# Altium schematic symbol library DRP_Basic_2014.SchLib: 39 symbols
Pins are listed as number, name and electrical type; pins without a type are passive.

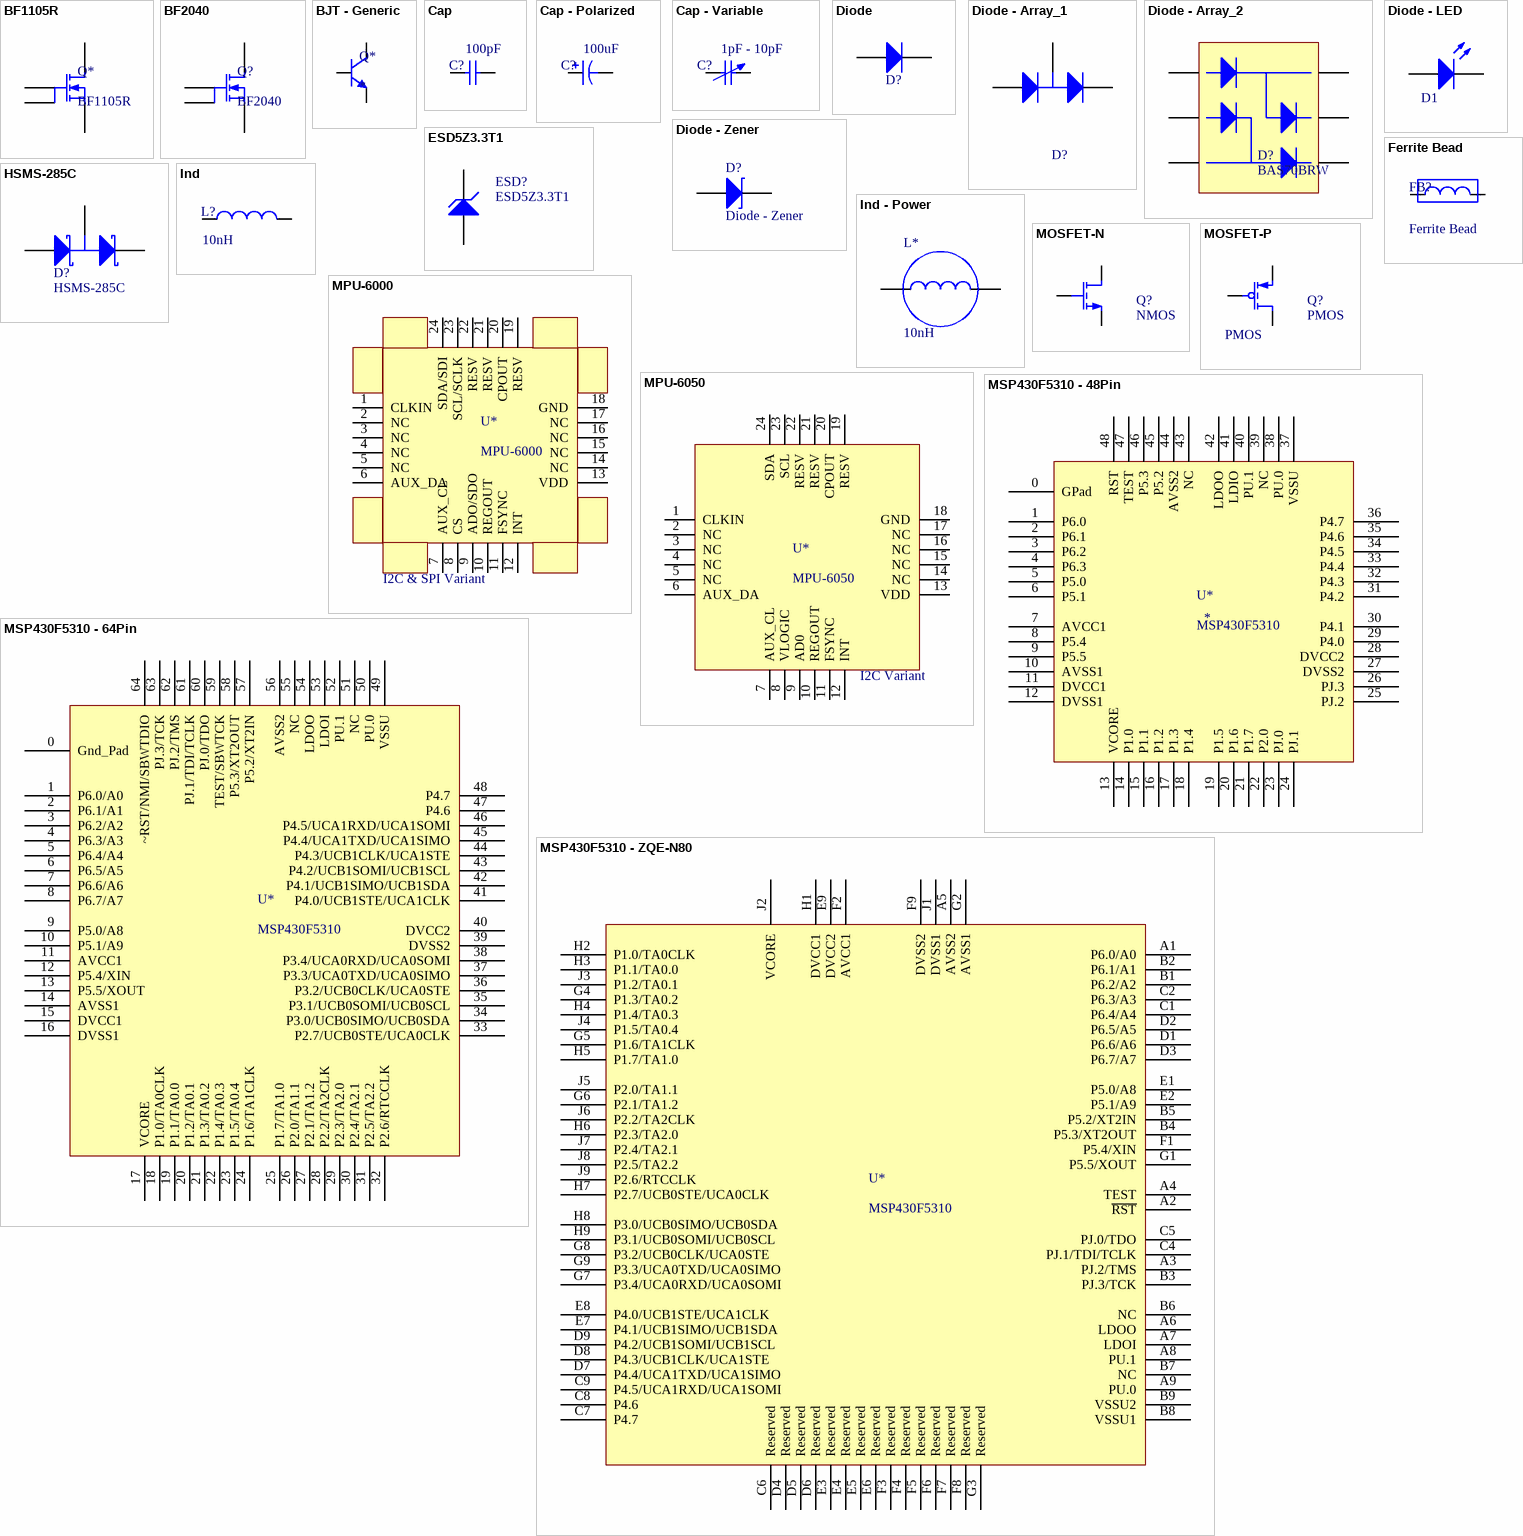
[diagram p0: symbols BF1105R to MSP430F5310 - ZQE-N80]

## BF1105R
designator Q*
SOT-143R, N-Channel Dual-Gate Mos-Fets MOSFET; Manufacturer Part Number: BF1105R,215; Manufacturer: NXP Semiconductors; Digi-Key Part Number: BF1105R,215-ND; Rating: *; Value: *; Note: *
footprint SOT-143R (SOT-143R for BF1105R)
pins: 1 S, 2 D, 3 G, 4 G

## BF2040
designator Q?
N-Channel RF MOSFET 1GHz, 40mA; Manufacturer: NXP Semiconductors; Digi-Key Part Number: BF2040E6814HTSA1CT-ND; Manufacturer Part Number: BF2040; Rating: *; Value: *; Note: *
footprint SOT-143R (SOT-143R for BF1105R)
footprint SOT-143
footprint SOT-343 (SOT343)
pins: 1 S, 2 D, 3 G2, 4 G1

## BJT - Generic
designator Q*
Generic BJT; Digi-Key Part Number: *; Manufacturer: *; Manufacturer Part Number: *; Note: *; Value: *; Rating: *
footprint SOT-323 / SC-70 (SOT-323 / SC-70; 3 Lead Package)
pins: 1 B, 2 E, 3 C

## Cap
designator C?  value 100pF  (hidden comment: Cap)
Ceramic Capacitor (Surface Mount); Manufacturer: Generic Ceramic Chip Cap (TBD); Digi-Key Part Number: *; Manufacturer Part Number: *; Note: *; Rating: *; Distributor Part Number: *; Distributor: *
footprint 0402 (Surface Mount; Body 1 x 0.5 mm (LxW typ))
footprint 0402-W (Surface Mount - Wide; Body 1.0 x 0.5 mm (LxW typ))
footprint 0603 (Surface Mount; Body 1.6 x 0.8 mm (LxW typ))
footprint 0603-W (Surface Mount - Wide; Body 1.6 x 0.8 mm (LxW typ))
footprint 0805 (Surface Mount; Body 2.0 x 1.25 mm (LxW typ))
footprint 0805-W (Surface Mount - Wide; Body 2.0 x 1.25 mm (LxW typ))
footprint 1206 (Surface Mount; Body 3.2 x 1.6 mm (LxW typ))
footprint 1206-W (Surface Mount - Wide; Body 3.2 x 1.6 mm (LxW typ))
footprint 1210 (Surface Mount; Body 3.2 x 2.5 mm (LxW typ))
footprint 1210-W (Chip Capacitor; Body 3.2 x 2.5 mm (LxW typ))
pins: 1, 2

## Cap - Polarized
designator C?  value 100uF  (hidden comment: Cap - Polarized)
Polarized Capacitor; Digi-Key Part Number: *; Manufacturer Part Number: *; Manufacturer: *; Rating: *; Note: *
pins: 1, 2
1 alternate drawing of the same symbol

## Cap - Variable
designator C?  value 1pF - 10pF  (hidden comment: Cap - Variable)
Variable or Adjustable Capacitor; Manufacturer: *; Manufacturer Part Number: *; Digi-Key Part Number: *; Rating: *; Note: *
footprint Var-Cap_0603_Small (Var-Cap 0603 Compatible High-Q, DK#490-2011-1-ND)
footprint Var-Cap - GKY40056 (CAP TRIMMER 8-40PF 50V SMD - GKY40056 - Sprague-Goodman)
footprint Var-Cap_0603_large (Var-Cap 603 Compatible, DK: 490-2009 & SG2026CT)
pins: 1, 2

## Diode
designator D?  (value not drawn)
General Purpose Diode; Manufacturer: *; Manufacturer Part Number: *; Digi-Key Part Number: *; Value: *; Rating: *; Note: *; Distributor Part Number: *; Distributor: *
footprint SOD-523 (SOD-523 Footprint)
footprint SOD-323 (SOD-322 Footprint)
pins: 1 A, 2 C

## Diode - Array_1
designator D?, comment Diode Array  (value not drawn)
Diode Array, Two in Series, Small Package SOT-323; Note: *; Manufacturer: *; Manufacturer Part Number: *; Digi-Key Part Number: *; Value: *; Rating: *
footprint SOT23 - N (SOT23, 3-Leads, Body 2.9x1.3mm, Pitch 0.95mm, Lead Span 2.3mm - Reverse Pinning, IPC Medium Density)
footprint SOT-323 / SC-70 (SOT-323 / SC-70; 3 Lead Package)
pins: 1 A, 2 K, 3 C

## Diode - Array_2
designator D?, comment BAS70BRW
Diode Array - 2 Pair Series Connection; Manufacturer: Diodes Inc; Manufacturer Part Number: BAS70BRW-7-F; Note: *; Digi-Key Part Number: BAS70BRW-7FDICT-ND; Value: *; Rating: *
footprint SOT-363 (SOT-363 ,SC-88 ,6 Lead)
pins: 1 A1, 2 A2, 3 AC2, 4 C2, 5 C1, 6 AC1

## Diode - LED
designator D1, comment LED  (value not drawn)
Typical RED, GREEN, YELLOW, AMBER GaAs LED; Digi-Key Part Number: *; Manufacturer: *; Manufacturer Part Number: *; Note: *; Value: *; Rating: *
footprint Diode - 0603 (Diode: Body 1.6 x 0.8 mm (LxW typ))
pins: 1 A, 2 K

## Diode - Zener
designator D?
Manufacturer Part Number: *; Manufacturer: *; Digi-Key Part Number: *; Note: *; Value: *; Rating: *
footprint SOD-523 (SOD-523 Footprint)
pins: 1 A, 2 K

## ESD5Z3.3T1
designator ESD?
5V Overvoltage Protection Zener; Manufacturer Part Number: ESD5Z3.3T1G; Manufacturer: ON Semiconductor; Digi-Key Part Number: ESD5Z3.3T1GOSCT-ND; Value: *; Rating: *; Note: *
footprint SOD-523 (SOD-523 Footprint)
pins: 1 A, 2 C

## Ferrite Bead
designator FB?
Ferrite bead, RF choke; Manufacturer: example: Taiyo Yuden; Manufacturer Part Number: example: BK1608HS330-T; Digi-Key Part Number: example: 587-1871-1-ND; Rating: *; Note: *; Value: *
footprint 0402 (Surface Mount; Body 1 x 0.5 mm (LxW typ))
footprint 0402-W (Surface Mount - Wide; Body 1.0 x 0.5 mm (LxW typ))
footprint 0603 (Surface Mount; Body 1.6 x 0.8 mm (LxW typ))
footprint 0603-W (Surface Mount - Wide; Body 1.6 x 0.8 mm (LxW typ))
footprint 0805 (Surface Mount; Body 2.0 x 1.25 mm (LxW typ))
footprint 0805-W (Surface Mount - Wide; Body 2.0 x 1.25 mm (LxW typ))
footprint 1206 (Surface Mount; Body 3.2 x 1.6 mm (LxW typ))
footprint 1206-W (Surface Mount - Wide; Body 3.2 x 1.6 mm (LxW typ))
pins: 1, 2

## HSMS-285C
designator D?
Agilent Schottky Diode, Two in Series, Small Package SOT-323; Manufacturer: Avago Technologies US Inc.; Note: *; Digi-Key Part Number: *not stocked; Manufacturer Part Number: HSMS-285C; Rating: *; Value: *
footprint SOT-323, HSMS-285C (SOT-323/SC-70; 3 Leads; HSMS-285C)
pins: 1 A, 2 K, 3 C

## Ind
designator L?  value 10nH  (hidden comment: Ind)
Inductor (Surface Mount); Digi-Key Part Number: *; Manufacturer: *; Manufacturer Part Number: *; Rating: *; Note: *
footprint 0402 (Surface Mount; Body 1 x 0.5 mm (LxW typ))
footprint 0402-W (Surface Mount - Wide; Body 1.0 x 0.5 mm (LxW typ))
footprint 0603 (Surface Mount; Body 1.6 x 0.8 mm (LxW typ))
footprint 0603-W (Surface Mount - Wide; Body 1.6 x 0.8 mm (LxW typ))
footprint 0805 (Surface Mount; Body 2.0 x 1.25 mm (LxW typ))
footprint 0805-W (Surface Mount - Wide; Body 2.0 x 1.25 mm (LxW typ))
footprint 1206 (Surface Mount; Body 3.2 x 1.6 mm (LxW typ))
footprint 1206-W (Surface Mount - Wide; Body 3.2 x 1.6 mm (LxW typ))
footprint 1210 (Surface Mount; Body 3.2 x 2.5 mm (LxW typ))
footprint 1210-W (Chip Capacitor; Body 3.2 x 2.5 mm (LxW typ))
pins: 1, 2

## Ind - Power
designator L*, comment value 10nH  (hidden comment: Ind)
Power Inductor for DC-DC convters (RF switching freq); Digi-Key Part Number: *; Distributor Part Number: *; Distributor: *; Manufacture Part Number: *; Manufacture: *; Note: *; Rating: *
footprint Inductor (1120) (Inductor - Boruns - Power - DC/DC - High Current Chokes)
footprint Inductor (1400) (Inductor - Murata - Bobbin Type Inductors)
footprint Inductor (2100LL) (Inductor - Boruns - Low Core Loss, High Current Toroid Inductors)
footprint Inductor (2200LL) (Inductor - Boruns - Low Core Loss, High Current Toroid Inductors)
footprint Inductor - LPS3015 (Coil Craft - LPS3015 (3 x 3 x 1.4mm))
footprint Inductor - [6mm x 6mm] (Power Inductor (6mm x 6mm) - SLF6028 Series)
pins: 1, 2

## MOSFET-N
designator Q?, comment NMOS
N-Channel MOSFET; Digi-Key Part Number: *; Manufacturer Part Number: *; Manufacturer: *; Note: *; Rating: *; Value: NMOS
footprint SOT23 - N (SOT23, 3-Leads, Body 2.9x1.3mm, Pitch 0.95mm, Lead Span 2.3mm - Reverse Pinning, IPC Medium Density)
footprint SOT-323 / SC-70 (SOT-323 / SC-70; 3 Lead Package)
footprint TO-252 / DPAK (Three pin device with one pin a thermal PAD, typically for MOSFETS)
footprint TO-252 / Mod - TO-220 (Three pin device with one pin a thermal PAD, typically for MOSFETS)
footprint SOT-523-3 (SOT-523-3 1.7x0.98mm body)
pins: 1 G, 2 S, 3 D

## MOSFET-P
designator Q?, comment PMOS
P-Channel MOSFET; Digi-Key Part Number: *; Manufacturer Part Number: *; Manufacturer: *; Note: *; Rating: *; Value: PMOS
footprint SOT23 - N (SOT23, 3-Leads, Body 2.9x1.3mm, Pitch 0.95mm, Lead Span 2.3mm - Reverse Pinning, IPC Medium Density)
footprint SOT-323 / SC-70 (SOT-323 / SC-70; 3 Lead Package)
footprint SC-75 - SOT-416 (SC-75, 3-Leads, Body)
pins: 1 G, 2 S, 3 D

## MPU-6000
designator U*  value I2C & SPI Variant
GYRO/ACCELEROMETER 6AXIS 24QFN; Manufacture: InvenSense; Distributor: *; Distributor Part Number: *; Manufacture Part Number: MPU-6000; Note: *; Rating: *
pins: 1 CLKIN, 2 NC, 3 NC, 4 NC, 5 NC, 6 AUX_DA, 7 AUX_CL, 8 CS, 9 ADO/SDO, 10 REGOUT, 11 FSYNC, 12 INT, 13 VDD, 14 NC, 15 NC, 16 NC, 17 NC, 18 GND, 19 RESV, 20 CPOUT, 21 RESV, 22 RESV, 23 SCL/SCLK, 24 SDA/SDI

## MPU-6050
designator U*  value I2C Variant
GYRO/ACCELEROMETER 6AXIS 24QFN; Manufacture: InvenSense; Digi-Key Part Number: 1428-1007-1-ND; Distributor: *; Distributor Part Number: *; Manufacture Part Number: MPU-6050; Note: *; Rating: *
footprint 24-QFN (24-QFN, for MSP430Fx21x1)
pins: 1 CLKIN, 2 NC, 3 NC, 4 NC, 5 NC, 6 AUX_DA, 7 AUX_CL, 8 VLOGIC, 9 AD0, 10 REGOUT, 11 FSYNC, 12 INT, 13 VDD, 14 NC, 15 NC, 16 NC, 17 NC, 18 GND, 19 RESV, 20 CPOUT, 21 RESV, 22 RESV, 23 SCL, 24 SDA

## MSP430F5310 - 48Pin
designator U*, comment MSP430F5310
MSP430 - 48LQFP or 48QFN; Manufacturer: Texas Instruments; Manufacturer Part Number: MSP430F5310 (IPTR or IRGZ); Digi-Key Part Number: 296-28193-2-ND or 296-28133-1-ND; Rating: *; Value: *; Note: *
footprint PT48_L (Thin QFP, 48-Leads, Body 7x7mm, Pitch 0.5mm, IPC High Density)
footprint 48-QFN
pins: 0 GPad, 1 P6.0, 2 P6.1, 3 P6.2, 4 P6.3, 5 P5.0, 6 P5.1, 7 AVCC1, 8 P5.4, 9 P5.5, 10 AVSS1, 11 DVCC1, 12 DVSS1, 13 VCORE, 14 P1.0, 15 P1.1, 16 P1.2, 17 P1.3, 18 P1.4, 19 P1.5, 20 P1.6, 21 P1.7, 22 P2.0, 23 PJ.0, 24 PJ.1, 25 PJ.2, 26 PJ.3, 27 DVSS2, 28 DVCC2, 29 P4.0, 30 P4.1, 31 P4.2, 32 P4.3, 33 P4.4, 34 P4.5, 35 P4.6, 36 P4.7, 37 VSSU, 38 PU.0, 39 NC, 40 PU.1, 41 LDIO, 42 LDOO, 43 NC, 44 AVSS2, 45 P5.2, 46 P5.3, 47 TEST, 48 RST

## MSP430F5310 - 64Pin
designator U*, comment MSP430F5310
16-bit Low Power Microcontroller  32KB FLASH 64VQFN; Manufacturer Part Number: MSP430F5310IRGCT; Manufacturer: Texas Instruments; Digi-Key Part Number: 296-31690-1-ND; Value: *; Rating: *; Note: *
footprint MSP430F5310 LCC64
pins: 0 Gnd_Pad, 1 P6.0/A0, 2 P6.1/A1, 3 P6.2/A2, 4 P6.3/A3, 5 P6.4/A4, 6 P6.5/A5, 7 P6.6/A6, 8 P6.7/A7, 9 P5.0/A8, 10 P5.1/A9, 11 AVCC1, 12 P5.4/XIN, 13 P5.5/XOUT, 14 AVSS1, 15 DVCC1, 16 DVSS1, 17 VCORE, 18 P1.0/TA0CLK, 19 P1.1/TA0.0, 20 P1.2/TA0.1, 21 P1.3/TA0.2, 22 P1.4/TA0.3, 23 P1.5/TA0.4, 24 P1.6/TA1CLK, 25 P1.7/TA1.0, 26 P2.0/TA1.1, 27 P2.1/TA1.2, 28 P2.2/TA2CLK, 29 P2.3/TA2.0, 30 P2.4/TA2.1, 31 P2.5/TA2.2, 32 P2.6/RTCCLK, 33 P2.7/UCB0STE/UCA0CLK, 34 P3.0/UCB0SIMO/UCB0SDA, 35 P3.1/UCB0SOMI/UCB0SCL, 36 P3.2/UCB0CLK/UCA0STE, 37 P3.3/UCA0TXD/UCA0SIMO, 38 P3.4/UCA0RXD/UCA0SOMI, 39 DVSS2, 40 DVCC2, 41 P4.0/UCB1STE/UCA1CLK, 42 P4.1/UCB1SIMO/UCB1SDA, 43 P4.2/UCB1SOMI/UCB1SCL, 44 P4.3/UCB1CLK/UCA1STE, 45 P4.4/UCA1TXD/UCA1SIMO, 46 P4.5/UCA1RXD/UCA1SOMI, 47 P4.6, 48 P4.7, 49 VSSU, 50 PU.0, 51 NC, 52 PU.1, 53 LDOI, 54 LDOO, 55 NC, 56 AVSS2, 57 P5.2/XT2IN, 58 P5.3/XT2OUT, 59 TEST/SBWTCK, 60 PJ.0/TDO, 61 PJ.1/TDI/TCLK, 62 PJ.2/TMS, 63 PJ.3/TCK, 64 ~RST/NMI/SBWTDIO

## MSP430F5310 - ZQE-N80
designator U*, comment MSP430F5310
16-bit MCU 32KB FLASH - 80BGA; Manufacturer Part Number: MSP430F5310IZQER; Manufacturer: Texas Instruments; Digi-Key Part Number: 296-28134-1-ND; Value: *; Rating: *; Note: *
footprint ZQE80 (BGA, 80-Leads, Body 5x5mm, Pitch 0.5mm)
pins: A1 P6.0/A0, A2 ~{RST}, A3 PJ.2/TMS, A4 TEST, A5 AVSS2, A6 LDOO, A7 LDOI, A8 PU.1, A9 PU.0, B1 P6.2/A2, B2 P6.1/A1, B3 PJ.3/TCK, B4 P5.3/XT2OUT, B5 P5.2/XT2IN, B6 NC, B7 NC, B8 VSSU1, B9 VSSU2, C1 P6.4/A4, C2 P6.3/A3, C4 PJ.1/TDI/TCLK, C5 PJ.0/TDO, C6 Reserved, C7 P4.7, C8 P4.6, C9 P4.5/UCA1RXD/UCA1SOMI, D1 P6.6/A6, D2 P6.5/A5, D3 P6.7/A7, D4 Reserved, D5 Reserved, D6 Reserved, D7 P4.4/UCA1TXD/UCA1SIMO, D8 P4.3/UCB1CLK/UCA1STE, D9 P4.2/UCB1SOMI/UCB1SCL, E1 P5.0/A8, E2 P5.1/A9, E3 Reserved, E4 Reserved, E5 Reserved, E6 Reserved, E7 P4.1/UCB1SIMO/UCB1SDA, E8 P4.0/UCB1STE/UCA1CLK, E9 DVCC2, F1 P5.4/XIN, F2 AVCC1, F3 Reserved, F4 Reserved, F5 Reserved, F6 Reserved, F7 Reserved, F8 Reserved, F9 DVSS2, G1 P5.5/XOUT, G2 AVSS1, G3 Reserved, G4 P1.3/TA0.2, G5 P1.6/TA1CLK, G6 P2.1/TA1.2, G7 P3.4/UCA0RXD/UCA0SOMI, G8 P3.2/UCB0CLK/UCA0STE, G9 P3.3/UCA0TXD/UCA0SIMO, H1 DVCC1, H2 P1.0/TA0CLK, H3 P1.1/TA0.0, H4 P1.4/TA0.3, H5 P1.7/TA1.0, H6 P2.3/TA2.0, H7 P2.7/UCB0STE/UCA0CLK, H8 P3.0/UCB0SIMO/UCB0SDA, H9 P3.1/UCB0SOMI/UCB0SCL, J1 DVSS1, J2 VCORE, J3 P1.2/TA0.1, J4 P1.5/TA0.4, J5 P2.0/TA1.1, J6 P2.2/TA2CLK, J7 P2.4/TA2.1, J8 P2.5/TA2.2, J9 P2.6/RTCCLK

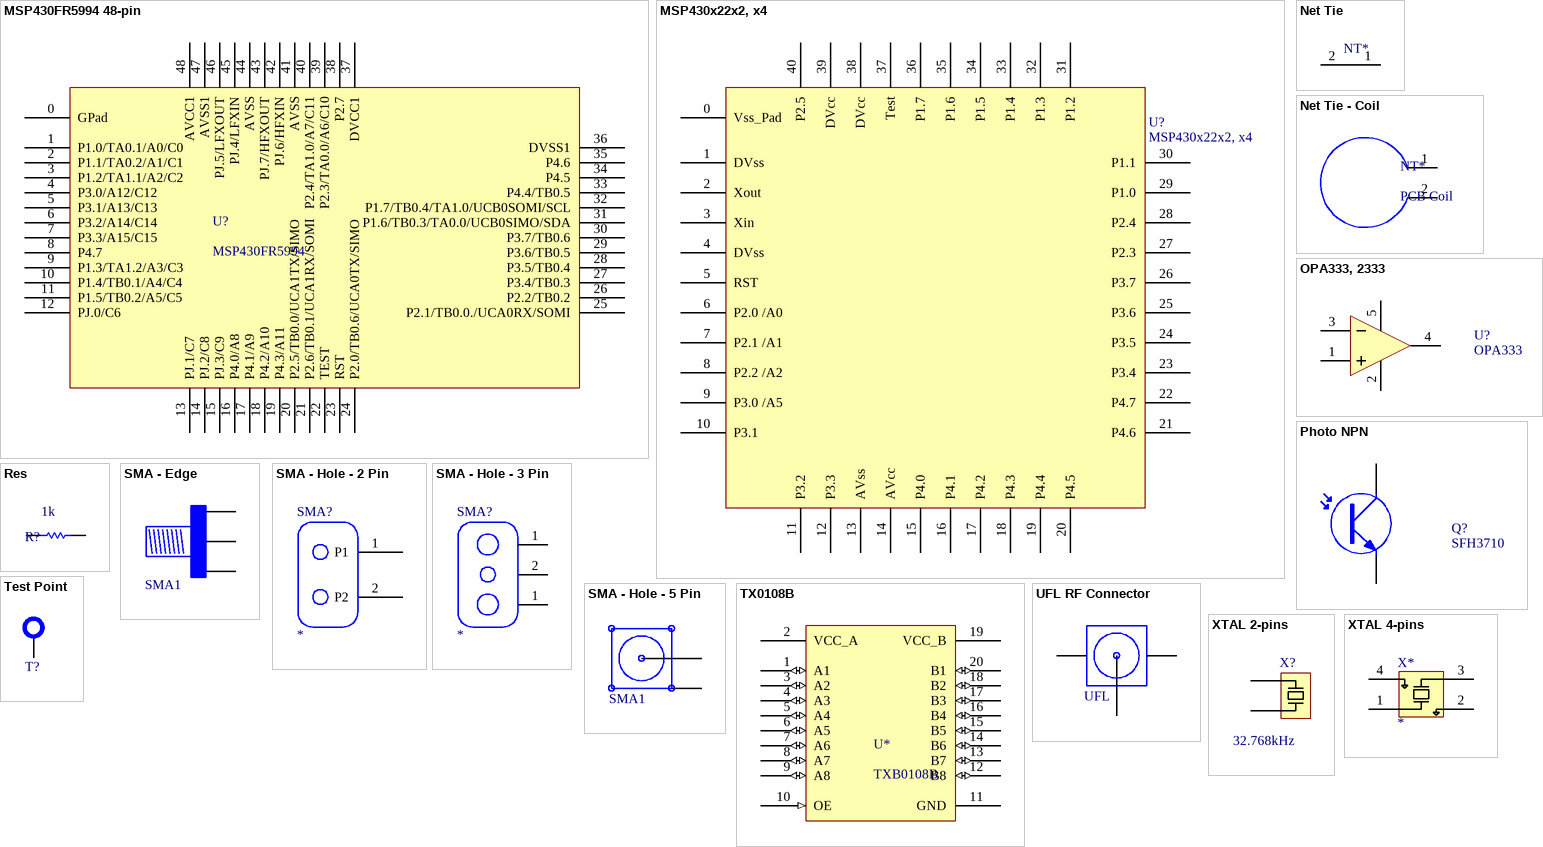
[diagram p1: symbols MSP430FR5994 48-pin to XTAL 4-pins]

## MSP430FR5994 48-pin
designator U?, comment MSP430FR5994
MSP430 - 48LQFP or 48QFN; Manufacturer: Texas Instruments; Manufacturer Part Number: MSP430FR5994; Rating: *; Value: *; Note: *
footprint 48-QFN - Round Pin 1
pins: 0 GPad (power), 1 P1.0/TA0.1/A0/C0, 2 P1.1/TA0.2/A1/C1, 3 P1.2/TA1.1/A2/C2, 4 P3.0/A12/C12, 5 P3.1/A13/C13, 6 P3.2/A14/C14, 7 P3.3/A15/C15, 8 P4.7, 9 P1.3/TA1.2/A3/C3, 10 P1.4/TB0.1/A4/C4, 11 P1.5/TB0.2/A5/C5, 12 PJ.0/C6, 13 PJ.1/C7, 14 PJ.2/C8, 15 PJ.3/C9, 16 P4.0/A8, 17 P4.1/A9, 18 P4.2/A10, 19 P4.3/A11, 20 P2.5/TB0.0/UCA1TX/SIMO, 21 P2.6/TB0.1/UCA1RX/SOMI, 22 TEST, 23 RST, 24 P2.0/TB0.6/UCA0TX/SIMO, 25 P2.1/TB0.0./UCA0RX/SOMI, 26 P2.2/TB0.2, 27 P3.4/TB0.3, 28 P3.5/TB0.4, 29 P3.6/TB0.5, 30 P3.7/TB0.6, 31 P1.6/TB0.3/TA0.0/UCB0SIMO/SDA, 32 P1.7/TB0.4/TA1.0/UCB0SOMI/SCL, 33 P4.4/TB0.5, 34 P4.5, 35 P4.6, 36 DVSS1 (power), 37 DVCC1 (power), 38 P2.7, 39 P2.3/TA0.0/A6/C10, 40 P2.4/TA1.0/A7/C11, 41 AVSS (power), 42 PJ.6/HFXIN, 43 PJ.7/HFXOUT, 44 AVSS (power), 45 PJ.4/LFXIN, 46 PJ.5/LFXOUT, 47 AVSS1 (power), 48 AVCC1 (power)

## MSP430x22x2, x4
designator U?
40QFN - MSP430x22x2, x4; Manufacturer: Texas Instruments; Manufacturer Part Number: MSP430F2272IRHAT (several variants); Note: *; Digi-Key Part Number: 296-21441-1-ND (several variants)
footprint 40-QFN (40-QFN, for MSP430x22x2, x4)
pins: 0 Vss_Pad (power) "Output", 1 DVss (power) "Output", 2 Xout "Output", 3 Xin "Output", 4 DVss (power) "Output", 5 RST, 6 P2.0 /A0, 7 P2.1 /A1, 8 P2.2 /A2, 9 P3.0 /A5, 10 P3.1, 11 P3.2, 12 P3.3, 13 AVss (power), 14 AVcc (power), 15 P4.0, 16 P4.1, 17 P4.2, 18 P4.3 , 19 P4.4, 20 P4.5, 21 P4.6, 22 P4.7, 23 P3.4, 24 P3.5, 25 P3.6, 26 P3.7, 27 P2.3, 28 P2.4, 29 P1.0, 30 P1.1, 31 P1.2, 32 P1.3, 33 P1.4, 34 P1.5, 35 P1.6, 36 P1.7, 37 Test, 38 DVcc (power), 39 DVcc (power), 40 P2.5

## Net Tie
designator NT*  (value not drawn)  (net tie)
Used to connect to nets; Note: A Net Tie is an element that allows two differnt nets to be connected (shorted) together.
footprint Net Tie - 50mil (Net Tie is used to connect two differnt nets together)
pins: 1 N1, 2 N2

## Net Tie - Coil
designator NT*, comment PCB Coil  (net tie, no BOM)
Hand draw coil symbol based on a 'Net Tie'; Note: A Net Tie is an element that allows two differnt nets to be connected (shorted) together.
footprint Net Tie - 50mil (Net Tie is used to connect two differnt nets together)
pins: 1 N1, 2 N2

## OPA333, 2333
designator U?, comment OPA333
Low power opamp; Manufacture: Texas Instruments; Manufacture Part Number: OPA333AIDCKR; Digi-Key Part Number: 296-19547-1-ND; Distributor: *; Distributor Part Number: *; Note: *; Rating: *; Value: *
footprint SC70-5
pins: 1 OS NUL, 2 IN-, 3 IN+, 4 TAB, 5 OS NUL

## Photo NPN
designator Q?, comment SFH3710
NPN Phototransistor; Manufacturer: OSRAM Opto Semiconductors Inc; Manufacturer Part Number: SFH 3710-3/4-Z; Digi-Key Part Number: 475-1268-1-ND; Value: *; Rating: *; Note: *
footprint 0805-W (Surface Mount - Wide; Body 2.0 x 1.25 mm (LxW typ))
pins: 1 C, 2 E

## Res
designator R?  value 1k  (hidden comment: Res)
Chip Resistor (Surface Mount); Manufacturer: Generic Chip Res (TBD); Manufacturer Part Number: *; Digi-Key Part Number: *; Rating: *; Note: *
footprint 0402 (Surface Mount; Body 1 x 0.5 mm (LxW typ))
footprint 0402-W (Surface Mount - Wide; Body 1.0 x 0.5 mm (LxW typ))
footprint 0603 (Surface Mount; Body 1.6 x 0.8 mm (LxW typ))
footprint 0603-W (Surface Mount - Wide; Body 1.6 x 0.8 mm (LxW typ))
footprint 0805 (Surface Mount; Body 2.0 x 1.25 mm (LxW typ))
footprint 0805-W (Surface Mount - Wide; Body 2.0 x 1.25 mm (LxW typ))
footprint 1206 (Surface Mount; Body 3.2 x 1.6 mm (LxW typ))
footprint 1206-W (Surface Mount - Wide; Body 3.2 x 1.6 mm (LxW typ))
footprint 1210 (Surface Mount; Body 3.2 x 2.5 mm (LxW typ))
footprint 1210-W (Chip Capacitor; Body 3.2 x 2.5 mm (LxW typ))
pins: 1, 2

## SMA - Edge
designator SMA1  (value not drawn)
SMA - Board Edge Connector; Note: *; Digi-Key Part Number: *; Manufacturer Part Number: *; Manufacturer: *
footprint SMA - Edge - Wide (SMA - Board Edge Connector, Wide Body = .375in, no gnd pad)
footprint SMA - Edge - Narrow (SMA - Board Edge Connector, Narrow body = 0.25in)
pins: 1, 1, 2

## SMA - Hole - 2 Pin
designator SMA?
Two pin SMA connector wisp; Note: Not a part do not populate
footprint SMA - Hole - 2 Pin (SMA port for wisp)
pins: 1 P1 "Output", 2 P2 "Output"

## SMA - Hole - 3 Pin
designator SMA?
Two pin SMA connector wisp; Note: Not a part do not populate
footprint SMA - Hole - 3 Pin (SMA Through Hole Connector 3 pins)
pins: 1 P1 "Output", 1 P1 "Output", 2 P2 "Output"

## SMA - Hole - 5 Pin
designator SMA1  (value not drawn)
SMA - Through Hole Connector; Manufacturer Part Number: *; Manufacturer: *; Digi-Key Part Number: *; Note: *
footprint SMA - Hole - 5 Pin (SMA Through Hole Connector)
pins: 1, 2

## Test Point
designator T?  (value not drawn)
Test Point, large or small foot prints; Manufacturer Part Number: Example: 5000, 5013; Manufacturer: Keystone Electronics; Digi-Key Part Number: Example: 5000K-ND, 5012K-ND, Surface mount 5015KCT-ND; Note: *; Rating: *; Value: *
footprint Test Point - Small (Test Point, 40mil hole, example DK: 5000K-ND)
footprint Test Point - Large (Test Point, 63mil hole, example DK: 5012K-ND)
footprint Test Point - Surface Mount - Small (Test Point, Surface Mount Large , example DK: 5015KCT-ND)
footprint Test Point - Super Small (25 - 42)
pins: 0

## TX0108B
designator U*, comment TXB0108B
footprint VQFN-20
pins: 1 A1 (io), 2 VCC_A (power), 3 A2 (io), 4 A3 (io), 5 A4 (io), 6 A5 (io), 7 A6 (io), 8 A7 (io), 9 A8 (io), 10 OE (in), 11 GND (power), 12 B8 (io), 13 B7 (io), 14 B6 (io), 15 B5 (io), 16 B4 (io), 17 B3 (io), 18 B2 (io), 19 VCC_B (power), 20 B1 (io)

## UFL RF Connector
designator UFL, comment U.FL-R-SMT(10)  (value not drawn)
UFL - Surface Mount Connector; Manufacturer: Hirose Electric Co Ltd; Manufacturer Part Number: U.FL-R-SMT(10); Digi-Key Part Number: H9161CT-ND; Note: *
footprint UFL Connector (UFL RF Connector Surface Mount - H9161CT-ND)
pins: 1 Gnd, 2 RF, 3 Gnd

## XTAL 2-pins
designator X?, comment value 32.768kHz  (hidden comment: XTAL)
Crystal - 2-Pin Surface Mount; Manufacturer: Epson Toyocom Corporation; Manufacturer Part Number: FC-135 32.7680KA-A3; Digi-Key Part Number: example: SE2413CT-ND
footprint XTAL - 2Pin [3.2mm x 1.5mm] (FC-135   crystal - epson eletronics)
footprint ECX-31B (ECS SMD TUNING FORK CRYSTAL)
pins: 1 (power) "Output", 2 (power) "Output"

## XTAL 4-pins
designator X*, comment XTAL 4pin  (value not drawn)
Crystal - 4-Pin Surface Mount; Manufacturer Part Number: NX2520SA-26.000000MHZ-B9; Manufacturer: NDK; Digi-Key Part Number: 644-1095-1-ND; Note: NX2520SA-26.000000MHZ-B9; Rating: *; Value: *
footprint XTAL - 4Pin [2.5mm x 2.0mm] (CRYSTAL, 2.5mm x 2.0mm,  4Pin)
footprint XTAL - 4Pin [3.2MM X 2.5MM] (CRYSTAL, 3.2mm x 2.5mm,  4Pin)
footprint XTAL - 4Pin [5.0mm x 3.2mm] (CRYSTAL, 5mm x 3.2mm,  4Pin)
footprint NX3225SA-12.000M-STD-CSR-1 (12 MHz Quartz Crystal)
footprint XTAL - 4Pin [2.0mm x 1.6mm] (CRYSTAL, 2.5mm x 2.0mm,  4Pin)
pins: 1 XIN, 2 Gnd, 3 XOUT, 4 Gnd